# EAGLE library part WE-LAN-10G,749053010 (library wurth_elektronik_passive_rev16d)
LAN-Transformer WE-LAN 10G <http://katalog.we-online.de/media/images/v2/Family_WE-LAN.jpg> Details see: http://katalog.we-online.de/en/pbs/WE-LAN/749053010?m 2015 (C) Würth Elektronik
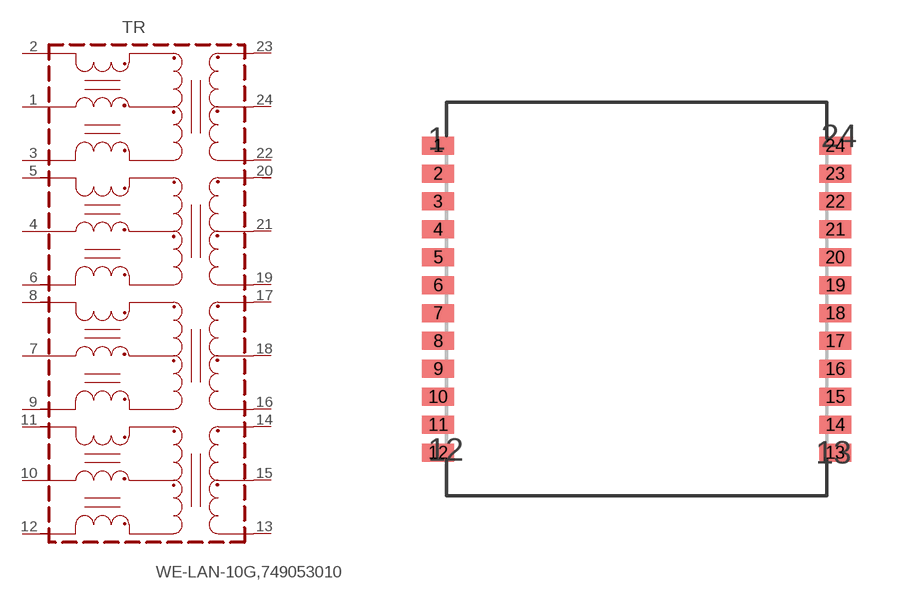
[diagram p184: symbol with the pads of WE-LAN10G:0.99MM; footprint WE-LAN10G:0.99MM]

Designator prefix TR

## WE-LAN-10G,749053010749053010  [WE-LAN10G:0.99MM]
1  TCT1
2  TD1+
3  TD1-
4  TCT2
5  TD2+
6  TD2-
7  TCT3
8  TD3+
9  TD3-
10  TCT4
11  TD4+
12  TD4-
13  MX4-
14  MX4+
15  MCT4
16  MX3-
17  MX3+
18  MCT3
19  MX2-
20  MX2+
21  MCT2
22  MX1-
23  MX1+
24  MCT1

## Footprint WE-LAN10G:0.99MM (pad centres in mm)
WE-LAN 10G:0.99mm
smd 1.14 x 0.64: 1 -7.05,5.445; 2 -7.05,4.455; 3 -7.05,3.465; 4 -7.05,2.475; 5 -7.05,1.485; 6 -7.05,0.495; 7 -7.05,-0.495; 8 -7.05,-1.485; 9 -7.05,-2.475; 10 -7.05,-3.465; 11 -7.05,-4.455; 12 -7.05,-5.445; 13 7.05,-5.445; 14 7.05,-4.455; 15 7.05,-3.465; 16 7.05,-2.475; 17 7.05,-1.485; 18 7.05,-0.495; 19 7.05,0.495; 20 7.05,1.485; 21 7.05,2.475; 22 7.05,3.465; 23 7.05,4.455; 24 7.05,5.445